# Altium footprint library Package_TO_SOT_SMD.PcbLib: 132 footprints (part 2 of 9)
Each footprint in its own frame and in the unit in brackets; x right, y up, seen from the top. Pads: shape width x height; smd on the part's side, far side on the other; paste and mask are expansions set on the pad; w line width, h text height; cw(c..) or ccw(c..) is an arc to the next point about the centre after c.
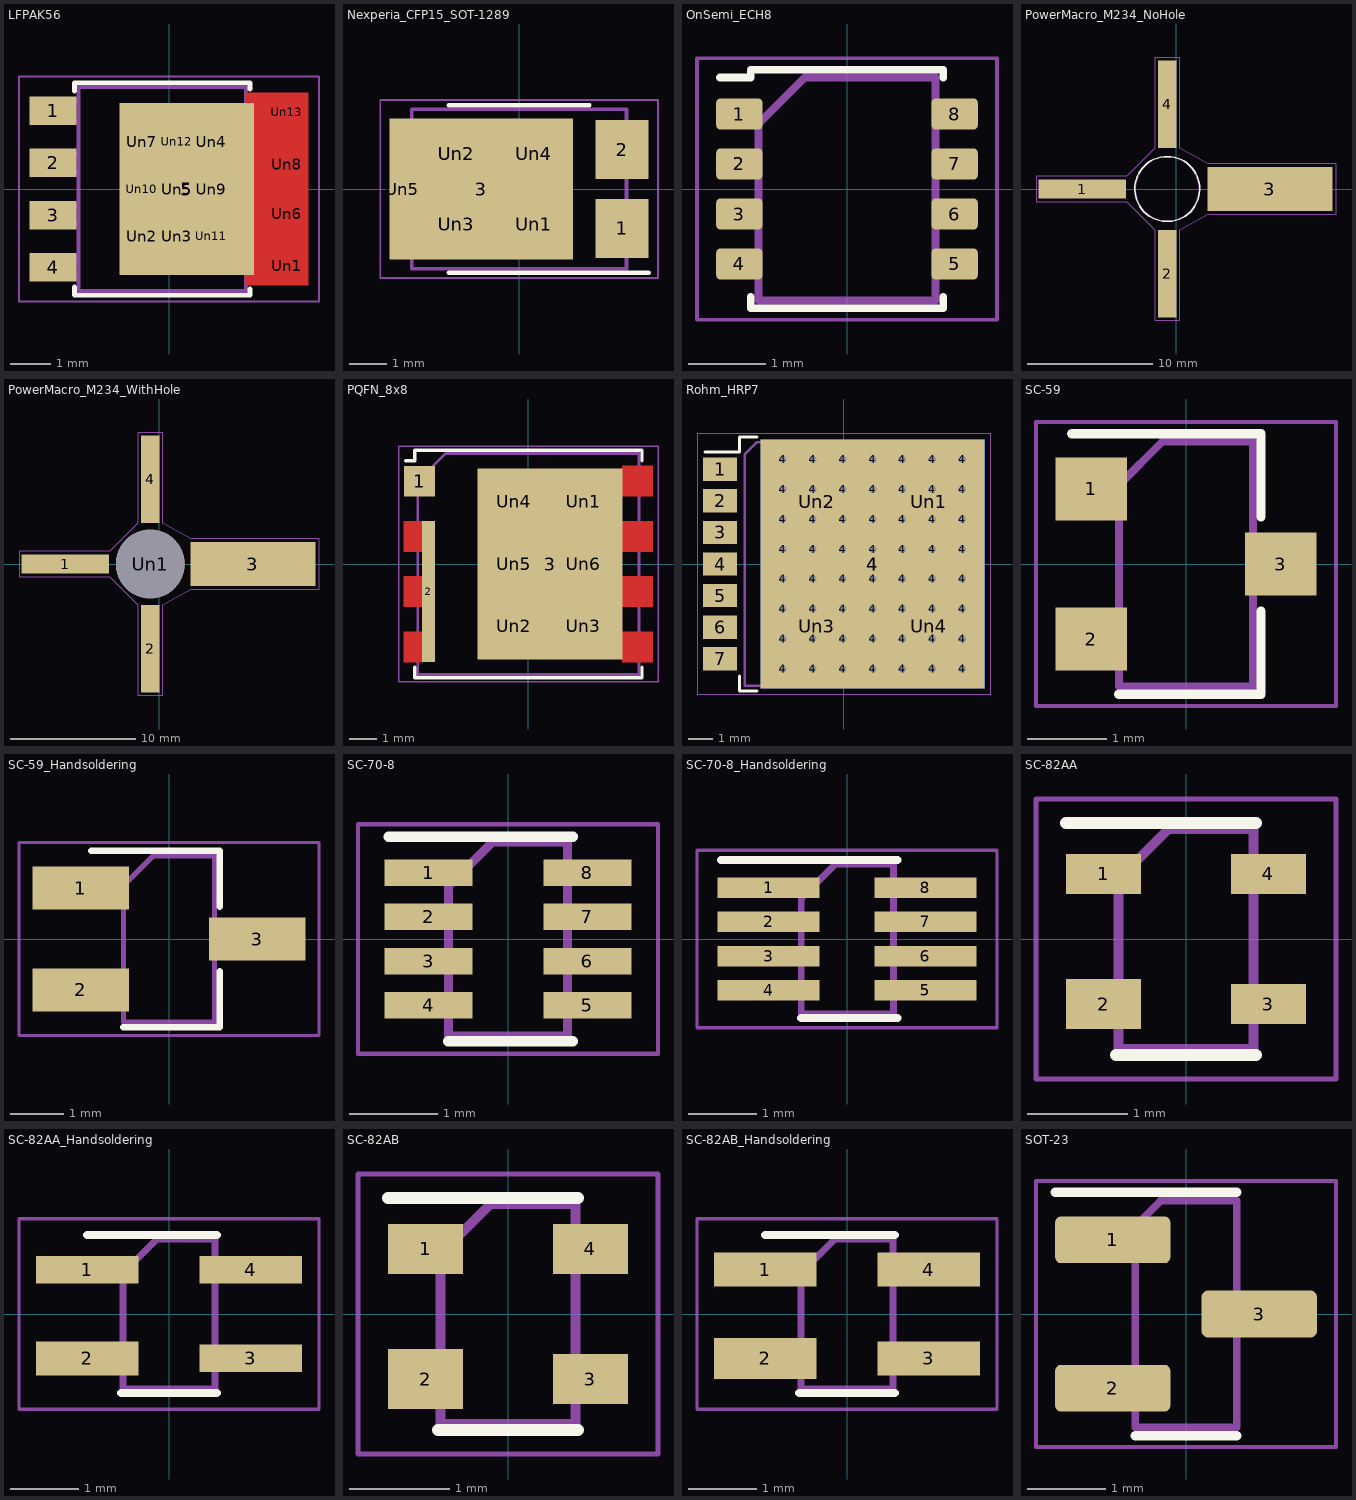
[diagram p1: the footprints below, top view; thin cyan lines are the x and y axes]

## LFPAK56 [mm]
pads (18):
  rect 1.15x0.7 smd: 1(-2.835,1.91) 2(-2.835,0.64) 3(-2.835,-0.64) 4(-2.835,-1.91)
  rect 3.3x4.2 smd: 5(0.435,0)
  rect 0.9x0.6 on Top Paste: Un1(2.885,-1.88) Un6(2.885,-0.6) Un8(2.885,0.6) Un13(2.885,1.88)
  rect 0.6x0.9 on Top Paste: Un2(-0.665,-1.15) Un3(0.185,-1.15) Un4(1.035,1.15) Un5(0.185,0) Un7(-0.665,1.15) Un9(1.035,0) Un10(-0.665,0) Un11(1.035,-1.15) Un12(0.185,1.15)
F.Cu:
  region: 3.41,-2.35 1.86,-2.35 1.86,2.35 3.41,2.35
F.SilkS:
  lines w0.12: -2.315,-2.4 -2.315,-2.6 1.985,-2.6 1.985,-2.45 ; -2.315,2.4 -2.315,2.6 1.985,2.6 1.985,2.45
F.Mask:
  region: 3.41,-2.35 1.86,-2.35 1.86,2.35 3.41,2.35
F.CrtYd:
  lines w0.05: -3.67,-2.75 -3.67,2.75 3.67,2.75 3.67,-2.75 -3.67,-2.75
F.Fab:
  lines w0.1: -2.215,-2.15 -3.215,-2.15 -3.215,-1.7 -2.215,-1.7 ; -2.215,-0.85 -3.215,-0.85 -3.215,-0.4 -2.215,-0.4 ; -2.215,0.4 -3.215,0.4 -3.215,0.85 -2.215,0.85 ; -2.215,1.65 -3.215,1.65 -3.215,2.15 -2.215,2.15 ; 1.885,-2.2 3.185,-2.2 3.185,2.2 1.885,2.2 ; -2.215,-2.5 -2.215,2.5 1.885,2.5 1.885,-2.5 -2.215,-2.5
  text "'.Designator'" at 0.84,-4.047 h1

## Nexperia_CFP15_SOT-1289 [mm]
pads (8):
  rect 1.44x1.6 smd: 1(2.78,-1.065) 2(2.78,1.065)
  rect 4.96x3.8 smd: 3(-1.02,0)
  rect 1.9x1.7 on Top Paste: Un1(0.4,-0.95) Un2(-1.7,0.95) Un3(-1.7,-0.95) Un4(0.4,0.95)
  rect 0.6x2.4 on Top Paste: Un5(-3.15,0)
F.SilkS:
  lines w0.12: -1.9,-2.26 3.5,-2.26 ; -1.9,2.26 1.9,2.26
F.CrtYd:
  lines w0.05: -3.75,-2.4 3.75,-2.4 3.75,2.4 -3.75,2.4 -3.75,-2.4
F.Fab:
  lines w0.1: -0.75,0 -0.35,0 ; -0.35,-0.55 -0.35,0.55 ; 0.25,0 0.75,0 ; -0.35,0 0.25,-0.4 0.25,0.4 -0.35,0 ; -2.9,-2.15 -2.9,2.15 2.9,2.15 2.9,-2.15 -2.9,-2.15
  text "'.Designator'" at -4.047,2.16 h1

## OnSemi_ECH8 [mm]
pads (8):
  rrect25% 0.6x0.4 smd: 1(-1.4,0.975) 2(-1.4,0.325) 3(-1.4,-0.325) 4(-1.4,-0.975) 5(1.4,-0.975) 6(1.4,-0.325) 7(1.4,0.325) 8(1.4,0.975)
F.SilkS:
  lines w0.1: -1.65,1.45 -1.25,1.45 -1.25,1.55 1.25,1.55 1.25,1.45 ; -1.25,-1.4 -1.25,-1.55 1.25,-1.55 1.25,-1.4
F.CrtYd:
  lines w0.05: -1.95,-1.7 -1.95,1.7 1.95,1.7 1.95,-1.7 -1.95,-1.7
F.Fab:
  lines w0.1: -1.15,-1.45 -1.15,0.85 -0.55,1.45 1.15,1.45 1.15,-1.45 -1.15,-1.45
  text "'.Designator'" at 0.42,-2.023 h0.5

## PowerMacro_M234_NoHole [mm]
pads (4):
  rect 7x1.5 smd: 1(-7.5,0)
  rect 1.5x7 smd: 2(-0.7,-6.8) 4(-0.7,6.8)
  rect 10x3.5 smd: 3(7.5,0)
F.SilkS:
  circle w0.12: c-0.7,0 r2.6
F.CrtYd:
  lines w0.05: -11.2,-1 -3.95,-1 -1.7,-3.25 -1.7,-10.5 0.3,-10.5 0.3,-3.25 2.55,-2 12.8,-2 12.8,2 2.55,2 0.3,3.25 0.3,10.5 -1.7,10.5 -1.7,3.25 -3.95,1 -11.2,1 -11.2,-1
F.Fab:
  circle w0.1: c-0.7,0 r2.55
  text "'.Designator'" at -2.61,0.453 h1

## PowerMacro_M234_WithHole [mm]
pads (5):
  rect 7x1.5 smd: 1(-7.5,0)
  rect 1.5x7 smd: 2(-0.7,-6.8) 4(-0.7,6.8)
  rect 10x3.5 smd: 3(7.5,0)
  round 5.5 hole 5.5: Un1(-0.7,0)
F.CrtYd:
  lines w0.05: -11.2,-1 -11.2,1 -3.95,1 -1.7,3.25 -1.7,10.5 0.3,10.5 0.3,3.25 2.55,2 12.8,2 12.8,-2 2.55,-2 0.3,-3.25 0.3,-10.5 -1.7,-10.5 -1.7,-3.25 -3.95,-1 -11.2,-1
F.Fab:
  circle w0.1: c-0.7,0 r2.55
  text "'.Designator'" at -2.61,0.453 h1

## PQFN_8x8 [mm]
pads (9):
  rect 1.13x1.1 smd: 1(-3.935,3)
  rect 0.48x5.1 smd: 2(-3.61,-1)
  rect 5.23x6.9 smd: 3(0.785,0)
  rect 1.5x1.5 on Top Paste: Un1(2,2.25) Un2(-0.5,-2.25) Un3(2,-2.25) Un4(-0.5,2.25) Un5(-0.5,0) Un6(2,0)
F.Cu:
  region: -3.85,0.45 -4.5,0.45 -4.5,1.55 -3.85,1.55
  region: -3.85,-1.55 -4.5,-1.55 -4.5,-0.45 -3.85,-0.45
  region: -3.85,-3.55 -4.5,-3.55 -4.5,-2.45 -3.85,-2.45
  region: 4.5,2.45 3.4,2.45 3.4,3.55 4.5,3.55
  region: 4.5,0.45 3.4,0.45 3.4,1.55 4.5,1.55
  region: 4.5,-1.55 3.4,-1.55 3.4,-0.45 4.5,-0.45
  region: 4.5,-3.55 3.4,-3.55 3.4,-2.45 4.5,-2.45
F.SilkS:
  lines w0.12: -4.44,3.73 -4.11,3.73 -4.11,4.11 4.11,4.11 4.11,3.73 ; -4.11,-3.73 -4.11,-4.11 4.11,-4.11 4.11,-3.73
F.Paste:
  region: -3.85,0.45 -4.5,0.45 -4.5,1.55 -3.85,1.55
  region: -3.85,-1.55 -4.5,-1.55 -4.5,-0.45 -3.85,-0.45
  region: -3.85,-3.55 -4.5,-3.55 -4.5,-2.45 -3.85,-2.45
F.Mask:
  region: -3.85,0.45 -4.5,0.45 -4.5,1.55 -3.85,1.55
  region: -3.85,-1.55 -4.5,-1.55 -4.5,-0.45 -3.85,-0.45
  region: -3.85,-3.55 -4.5,-3.55 -4.5,-2.45 -3.85,-2.45
  region: 4.5,2.45 3.4,2.45 3.4,3.55 4.5,3.55
  region: 4.5,0.45 3.4,0.45 3.4,1.55 4.5,1.55
  region: 4.5,-1.55 3.4,-1.55 3.4,-0.45 4.5,-0.45
  region: 4.5,-3.55 3.4,-3.55 3.4,-2.45 4.5,-2.45
F.CrtYd:
  lines w0.05: -4.69,-4.25 -4.69,4.25 4.69,4.25 4.69,-4.25 -4.69,-4.25
F.Fab:
  circle w0.1: c0,0 r0.25
  lines w0.1: -0.25,0 0.25,0 ; 0,-0.25 0,0.25 ; -4,-4 -4,3 -3,4 4,4 4,-4 -4,-4
  text "'.Designator'" at -4.047,-0.84 h1

## Rohm_HRP7 [mm]
pads (69):
  rect 1.37x0.93 smd: 1(-4.97,3.81) 2(-4.97,2.54) 3(-4.97,1.27) 4(-4.97,0) 5(-4.97,-1.27) 6(-4.97,-2.54) 7(-4.97,-3.81)
  round 0.6 hole 0.3: 4(-2.445,-4.2) 4(-2.445,-3) 4(-2.445,-1.8) 4(-2.445,-0.6) 4(-2.445,0.6) 4(-2.445,1.8) 4(-2.445,3) 4(-2.445,4.2) 4(-1.245,-4.2) 4(-1.245,-3) 4(-1.245,-1.8) 4(-1.245,-0.6) 4(-1.245,0.6) 4(-1.245,1.8) 4(-1.245,3) 4(-1.245,4.2) 4(-0.045,-4.2) 4(-0.045,-3) 4(-0.045,-1.8) 4(-0.045,-0.6) 4(-0.045,0.6) 4(-0.045,1.8) 4(-0.045,3) 4(-0.045,4.2) 4(1.155,-4.2) 4(1.155,-3) 4(1.155,-1.8) 4(1.155,-0.6) 4(1.155,0.6) 4(1.155,1.8) 4(1.155,3) 4(1.155,4.2) 4(2.355,-4.2) 4(2.355,-3) 4(2.355,-1.8) 4(2.355,-0.6) 4(2.355,0.6) 4(2.355,1.8) 4(2.355,3) 4(2.355,4.2) 4(3.555,-4.2) 4(3.555,-3) 4(3.555,-1.8) 4(3.555,-0.6) 4(3.555,0.6) 4(3.555,1.8) 4(3.555,3) 4(3.555,4.2) 4(4.755,-4.2) 4(4.755,-3) 4(4.755,-1.8) 4(4.755,-0.6) 4(4.755,0.6) 4(4.755,1.8) 4(4.755,3) 4(4.755,4.2)
  rect 9x10 smd: 4(1.155,0)
  rect 9x10 smd far side: 4(1.155,0)
  rect 4x4.5 on Top Paste: Un1(3.405,2.5) Un2(-1.095,2.5) Un3(-1.095,-2.5) Un4(3.405,-2.5)
F.SilkS:
  lines w0.12: -5.585,4.5 -4.185,4.5 -4.185,5.1 -3.485,5.1 ; -4.185,-4.5 -4.185,-5.1 -3.485,-5.1
F.CrtYd:
  lines w0.05: -5.9,-5.25 5.9,-5.25 5.9,5.25 -5.9,5.25 -5.9,-5.25
F.Fab:
  lines w0.1: 4.015,-4.4 4.515,-4.4 5.015,-3.3 5.015,3.3 4.515,4.4 4.015,4.4 ; -3.985,-4.9 -3.985,4.4 -3.485,4.9 4.015,4.9 4.015,-4.9 -3.985,-4.9
  text "'.Designator'" at -4.047,-0.84 h1

## SC-59 [mm]
pads (3):
  rect 0.9x0.8 smd: 1(-1.2,0.95) 2(-1.2,-0.95) 3(1.2,0)
F.SilkS:
  lines w0.12: -1.45,1.65 0.95,1.65 0.95,0.6 ; -0.85,-1.65 0.95,-1.65 0.95,-0.6
F.CrtYd:
  lines w0.05: -1.9,-1.8 1.9,-1.8 1.9,1.8 -1.9,1.8 -1.9,-1.8
F.Fab:
  lines w0.1: 0.85,-1.55 -0.85,-1.55 -0.85,1 -0.3,1.55 0.85,1.55 ; 0.85,-1.52 0.85,1.52
  text "'.Designator'" at 0.42,-2.023 h0.5

## SC-59_Handsoldering [mm]
pads (3):
  rect 1.8x0.8 smd: 1(-1.65,0.95) 2(-1.65,-0.95) 3(1.65,0)
F.SilkS:
  lines w0.12: -1.45,1.65 0.95,1.65 0.95,0.6 ; -0.85,-1.65 0.95,-1.65 0.95,-0.6
F.CrtYd:
  lines w0.05: -2.8,-1.8 -2.8,1.8 2.8,1.8 2.8,-1.8 -2.8,-1.8
F.Fab:
  lines w0.1: 0.85,-1.55 -0.85,-1.55 -0.85,1 -0.3,1.55 0.85,1.55 ; 0.85,-1.52 0.85,1.52
  text "'.Designator'" at 0.42,-2.023 h0.5

## SC-70-8 [mm]
pads (8):
  rect 1x0.3 smd: 1(-0.9,0.75) 2(-0.9,0.25) 3(-0.9,-0.25) 4(-0.9,-0.75) 5(0.9,-0.75) 6(0.9,-0.25) 7(0.9,0.25) 8(0.9,0.75)
F.SilkS:
  lines w0.12: -1.35,1.16 0.735,1.16 ; -0.675,-1.16 0.735,-1.16
F.CrtYd:
  lines w0.05: -1.7,-1.3 1.7,-1.3 1.7,1.3 -1.7,1.3 -1.7,-1.3
F.Fab:
  lines w0.1: -0.675,-1.1 -0.675,0.6 -0.175,1.1 0.675,1.1 0.675,-1.1 -0.675,-1.1
  text "'.Designator'" at 0.42,-2.023 h0.5

## SC-70-8_Handsoldering [mm]
pads (8):
  rect 1.5x0.3 smd: 1(-1.15,0.75) 2(-1.15,0.25) 3(-1.15,-0.25) 4(-1.15,-0.75) 5(1.15,-0.75) 6(1.15,-0.25) 7(1.15,0.25) 8(1.15,0.75)
F.SilkS:
  lines w0.12: -1.85,1.16 0.74,1.16 ; -0.67,-1.16 0.74,-1.16
F.CrtYd:
  lines w0.05: -2.2,-1.3 2.2,-1.3 2.2,1.3 -2.2,1.3 -2.2,-1.3
F.Fab:
  lines w0.1: -0.67,-1.1 -0.67,0.6 -0.17,1.1 0.68,1.1 0.68,-1.1 -0.67,-1.1
  text "'.Designator'" at 0.42,-2.023 h0.5

## SC-82AA [mm]
pads (4):
  rect 0.75x0.4 smd: 1(-0.825,0.65) 3(0.825,-0.65) 4(0.825,0.65)
  rect 0.75x0.5 smd: 2(-0.825,-0.65)
F.SilkS:
  lines w0.12: -1.2,1.16 0.7,1.16 ; -0.7,-1.16 0.7,-1.16
F.CrtYd:
  lines w0.05: -1.5,-1.4 -1.5,1.4 1.5,1.4 1.5,-1.4 -1.5,-1.4
F.Fab:
  lines w0.1: -0.675,-1.1 -0.675,0.6 -0.175,1.1 0.675,1.1 0.675,-1.1 -0.675,-1.1
  text "'.Designator'" at 0.42,-2.023 h0.5

## SC-82AA_Handsoldering [mm]
pads (4):
  rect 1.5x0.4 smd: 1(-1.2,0.65) 3(1.2,-0.65) 4(1.2,0.65)
  rect 1.5x0.5 smd: 2(-1.2,-0.65)
F.SilkS:
  lines w0.12: -1.2,1.16 0.7,1.16 ; -0.7,-1.16 0.7,-1.16
F.CrtYd:
  lines w0.05: -2.2,-1.4 2.2,-1.4 2.2,1.4 -2.2,1.4 -2.2,-1.4
F.Fab:
  lines w0.1: -0.675,-1.1 -0.675,0.6 -0.175,1.1 0.675,1.1 0.675,-1.1 -0.675,-1.1
  text "'.Designator'" at 0.42,-2.023 h0.5

## SC-82AB [mm]
pads (4):
  rect 0.75x0.5 smd: 1(-0.825,0.65) 3(0.825,-0.65) 4(0.825,0.65)
  rect 0.75x0.6 smd: 2(-0.825,-0.65)
F.SilkS:
  lines w0.12: -1.2,1.16 0.7,1.16 ; -0.7,-1.16 0.7,-1.16
F.CrtYd:
  lines w0.05: -1.5,-1.4 1.5,-1.4 1.5,1.4 -1.5,1.4 -1.5,-1.4
F.Fab:
  lines w0.1: -0.675,-1.1 0.675,-1.1 0.675,1.1 -0.175,1.1 -0.675,0.6 -0.675,-1.1
  text "'.Designator'" at 0.42,-2.023 h0.5

## SC-82AB_Handsoldering [mm]
pads (4):
  rect 1.5x0.5 smd: 1(-1.2,0.65) 3(1.2,-0.65) 4(1.2,0.65)
  rect 1.5x0.6 smd: 2(-1.2,-0.65)
F.SilkS:
  lines w0.12: -1.2,1.16 0.7,1.16 ; -0.7,-1.16 0.7,-1.16
F.CrtYd:
  lines w0.05: -2.2,-1.4 2.2,-1.4 2.2,1.4 -2.2,1.4 -2.2,-1.4
F.Fab:
  lines w0.1: -0.675,-1.1 -0.675,0.6 -0.175,1.1 0.675,1.1 0.675,-1.1 -0.675,-1.1
  text "'.Designator'" at 0.42,-2.023 h0.5

## SOT-23 [mm]
pads (3):
  rrect25% 1.475x0.6 smd: 1(-0.937,0.95) 2(-0.937,-0.95) 3(0.937,0)
F.SilkS:
  lines w0.12: -1.675,1.56 0,1.56 0.65,1.56 ; -0.65,-1.56 0,-1.56 0.65,-1.56
F.CrtYd:
  lines w0.05: -1.92,-1.7 1.92,-1.7 1.92,1.7 -1.92,1.7 -1.92,-1.7
F.Fab:
  lines w0.1: -0.65,-1.45 -0.65,1.125 -0.325,1.45 0.65,1.45 0.65,-1.45 -0.65,-1.45
  text "'.Designator'" at -1.247,-0.114 h0.32
3D body "SOT-23.step": height 1.2, standoff 0, extent -1.25,-1.5 1.25,1.5